# EAGLE library part MMA7260QT (library MMA7260QT)
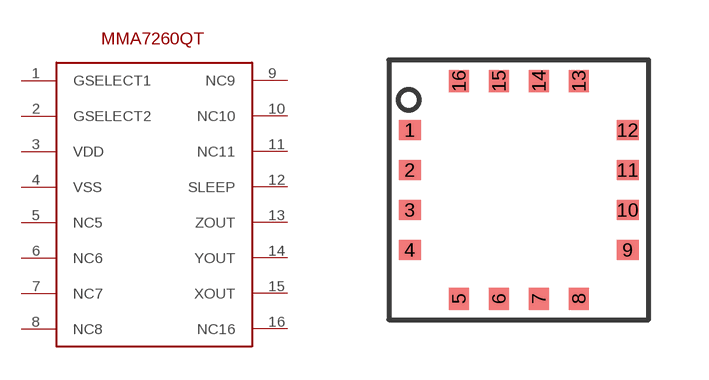
[diagram p0: symbol with the pads of MMA7260QT; footprint MMA7260QT]

Designator prefix -

## MMA7260QT  [MMA7260QT]
1  GSELECT1
2  GSELECT2
3  VDD  pwr
4  VSS
5  NC5  nc
6  NC6  nc
7  NC7  nc
8  NC8  nc
9  NC9  nc
10  NC10  nc
11  NC11  nc
12  SLEEP
13  ZOUT  out
14  YOUT  out
15  XOUT  out
16  NC16  nc

## Footprint MMA7260QT (pad centres in mm)
smd 0.55 x 0.5: 1 -2.725,1.5; 2 -2.725,0.5; 3 -2.725,-0.5; 4 -2.725,-1.5; 9 2.725,-1.5; 10 2.725,-0.5; 11 2.725,0.5; 12 2.725,1.5
smd 0.5 x 0.55: 5 -1.5,-2.725; 6 -0.5,-2.725; 7 0.5,-2.725; 8 1.5,-2.725; 13 1.5,2.725; 14 0.5,2.725; 15 -0.5,2.725; 16 -1.5,2.725